# EAGLE library part HEADER_0.1_IN_8_POS (library konekt)
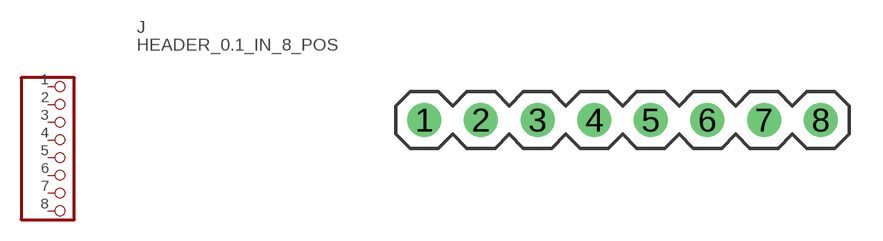
[diagram p1: symbol with the pads of HEADER_0.1_8_POS; footprint HEADER_0.1_8_POS]

Designator prefix J

## HEADER_0.1_IN_8_POS (MFG: Adam Tech; MPN: RS1-08-G-.561-A11596; PACKAGE: CUSTOM)  [HEADER_0.1_8_POS]
1  1  pas
2  2  pas
3  3  pas
4  4  pas
5  5  pas
6  6  pas
7  7  pas
8  8  pas

## Footprint HEADER_0.1_8_POS (pad centres in mm)
drill 1.016: 1 -6.35,0; 2 -3.81,0; 3 -1.27,0; 4 1.27,0; 5 3.81,0; 6 6.35,0; 7 8.89,0; 8 11.43,0